# Altium footprint library DWM1001.PcbLib: 1 footprints
Each footprint in its own frame and in the unit in brackets; x right, y up, seen from the top. Pads: shape width x height; smd on the part's side, far side on the other; paste and mask are expansions set on the pad; w line width, h text height; cw(c..) or ccw(c..) is an arc to the next point about the centre after c.
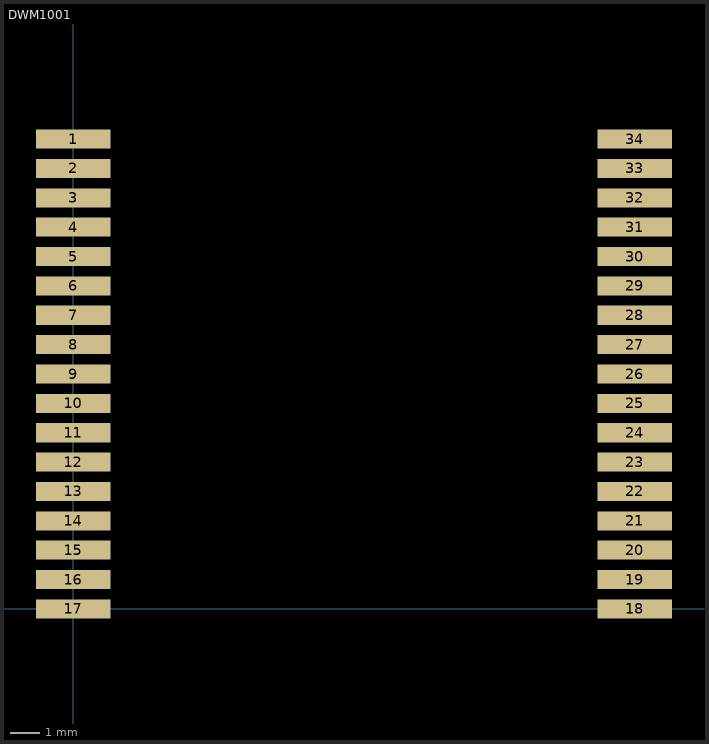
[diagram p0: the footprint, top view; thin cyan lines are the x and y axes]

## DWM1001 [mm]
pads (34):
  rect 2.54x0.65 smd: 1(0,16) 2(0,15) 3(0,14) 4(0,13) 5(0,12) 6(0,11) 7(0,10) 8(0,9) 9(0,8) 10(0,7) 11(0,6) 12(0,5) 13(0,4) 14(0,3) 15(0,2) 16(0,1) 17(0,0) 18(19.13,0) 19(19.13,1) 20(19.13,2) 21(19.13,3) 22(19.13,4) 23(19.13,5) 24(19.13,6) 25(19.13,7) 26(19.13,8) 27(19.13,9) 28(19.13,10) 29(19.13,11) 30(19.13,12) 31(19.13,13) 32(19.13,14) 33(19.13,15) 34(19.13,16)
3D body "dwm1001 v2.step": height 3.2, standoff 0, extent -0.014,-1.15 19.116,24.97